# Altium schematic symbol library uControlador.SchLib: 27 symbols
Pins are listed as number, name and electrical type; pins without a type are passive.

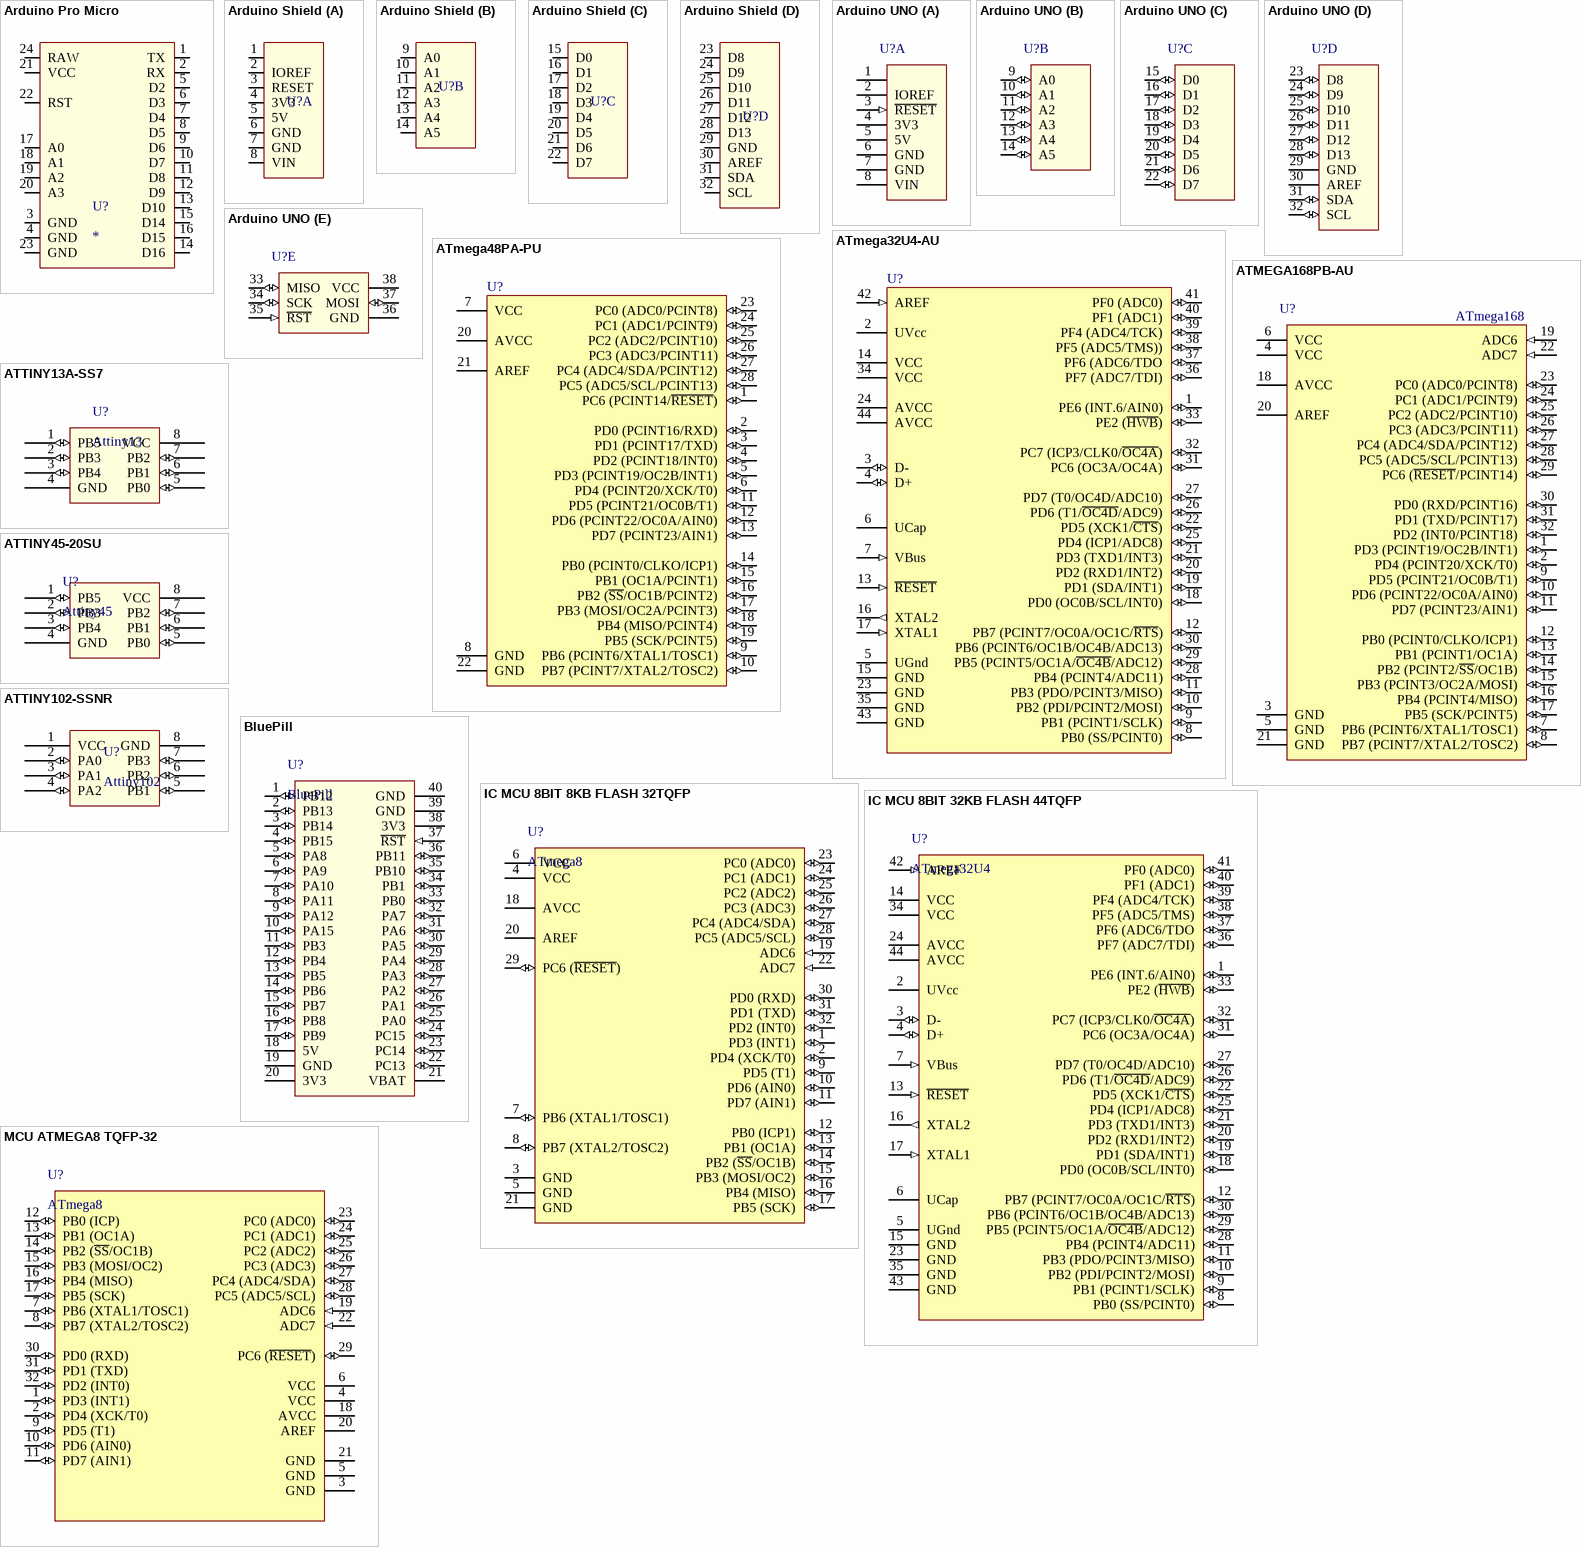
[diagram p0: symbols Arduino Pro Micro to MCU ATMEGA8 TQFP-32]

## Arduino Pro Micro
designator U?
Arduino Pro Micro
footprint Arduino Pro Micro
pins: 1 TX, 2 RX, 3 GND, 4 GND, 5 D2, 6 D3, 7 D4, 8 D5, 9 D6, 10 D7, 11 D8, 12 D9, 13 D10, 14 D16, 15 D14, 16 D15, 17 A0, 18 A1, 19 A2, 20 A3, 21 VCC, 22 RST, 23 GND, 24 RAW

## Arduino Shield
designator U?  (value not drawn)
footprint Arduino Shield
part A pins: 1, 2 IOREF, 3 RESET, 4 3V3, 5 5V, 6 GND, 7 GND, 8 VIN
part B pins: 9 A0, 10 A1, 11 A2, 12 A3, 13 A4, 14 A5
part C pins: 15 D0, 16 D1, 17 D2, 18 D3, 19 D4, 20 D5, 21 D6, 22 D7
part D pins: 23 D8, 24 D9, 25 D10, 26 D11, 27 D12, 28 D13, 29 GND, 30 AREF, 31 SDA, 32 SCL

## Arduino UNO
designator U?  (value not drawn)
footprint Arduino UNO
part A pins: 1, 2 IOREF, 3 ~{RESET} (in), 4 3V3 (power), 5 5V (power), 6 GND (power), 7 GND (power), 8 VIN (power)
part B pins: 9 A0 (io), 10 A1 (io), 11 A2 (io), 12 A3 (io), 13 A4 (io), 14 A5 (io)
part C pins: 15 D0 (io), 16 D1 (io), 17 D2 (io), 18 D3 (io), 19 D4 (io), 20 D5 (io), 21 D6 (io), 22 D7 (io)
part D pins: 23 D8 (io), 24 D9 (io), 25 D10 (io), 26 D11 (io), 27 D12 (io), 28 D13 (io), 29 GND (power), 30 AREF, 31 SDA (io), 32 SCL (io)
part E pins: 33 MISO (io), 34 SCK (io), 35 ~{RST} (in), 36 GND (power), 37 MOSI (io), 38 VCC (power)

## ATmega32U4-AU
designator U?
8-bit AVR Microcontroller, 2.7-5.5V, 32KB Flash, 2.5KB EEPROM, 1KB SRAM, USB Controller, 44-pin TQFP, Industrial Grade (-40°C to 85°C); Published: 1-Apr-2010; DatasheetVersion: revD, Jan-2009; PackageVersion: rev.G, Jul-2007; PackageReference: 44ML; Publisher: Altium Limited; PackageDescription: 44-Pin Plastic Thin Quad Flat Pack, 10 x 10 x 1.0 mm Body, 0.8 mm Pitch (TQFP); Supplier 1: Digi-Key; Supplier Part Number 1: ATMEGA32U4-AU-ND; Supplier 2: Farnell; Supplier Part Number 2: 1748525; Supplier 3: Mouser; Supplier Part Number 3: 556-ATMEGA32U4-AU; ComponentLink1Description: Manufacturer Link; ComponentLink1URL: http://www.atmel.com/products/avr/default.asp?; ComponentLink2Description: ATmega16U4/32U4 Datasheet; ComponentLink2URL: http://www.atmel.com/dyn/resources/prod_documents/doc7766.pdf; ComponentLink3Description: ATmega16U4 ATmega32U4 Summary; ComponentLink3URL: http://www.atmel.com/dyn/resources/prod_documents/7766S.pdf; ComponentLink4Description: Atmel.com Home; ComponentLink4URL: http://www.atmel.com
footprint 44ML (Thin QFP, 44-Leads, Body 10x10mm, Pitch 0.8mm, IPC Low Density)
pins: 1 PE6 (INT.6/AIN0) (io), 2 UVcc (power), 3 D- (io), 4 D+ (io), 5 UGnd (power), 6 UCap, 7 VBus (in), 8 PB0 (SS/PCINT0) (io), 9 PB1 (PCINT1/SCLK) (io), 10 PB2 (PDI/PCINT2/MOSI) (io), 11 PB3 (PDO/PCINT3/MISO) (io), 12 PB7 (PCINT7/OC0A/OC1C/~{RTS}) (io), 13 ~{RESET} (in), 14 VCC (power), 15 GND (power), 16 XTAL2 (out), 17 XTAL1 (in), 18 PD0 (OC0B/SCL/INT0) (io), 19 PD1 (SDA/INT1) (io), 20 PD2 (RXD1/INT2) (io), 21 PD3 (TXD1/INT3) (io), 22 PD5 (XCK1/~{CTS}) (io), 23 GND (power), 24 AVCC (power), 25 PD4 (ICP1/ADC8) (io), 26 PD6 (T1/~{OC4D}/ADC9) (io), 27 PD7 (T0/OC4D/ADC10) (io), 28 PB4 (PCINT4/ADC11) (io), 29 PB5 (PCINT5/OC1A/~{OC4B}/ADC12) (io), 30 PB6 (PCINT6/OC1B/OC4B/ADC13) (io), 31 PC6 (OC3A/OC4A) (io), 32 PC7 (ICP3/CLK0/~{OC4A}) (io), 33 PE2 (~{HWB}) (io), 34 VCC (power), 35 GND (power), 36 PF7 (ADC7/TDI) (io), 37 PF6 (ADC6/TDO (io), 38 PF5 (ADC5/TMS)) (io), 39 PF4 (ADC4/TCK) (io), 40 PF1 (ADC1) (io), 41 PF0 (ADC0) (io), 42 AREF (in), 43 GND (power), 44 AVCC (power)

## ATmega48PA-PU
designator U?
8-bit AVR Microcontroller, 4KB Flash, 256 Bytes EEPROM, 512 Bytes SRAM, 28-pin PDIP, Industrial Grade (-40°C to 85°C); Published: 1-Apr-2010; DatasheetVersion: revA, Jan-2010; PackageVersion: revB, Sep-2001; PackageReference: 28P3; Publisher: Altium Limited; PackageDescription: 28-lead (0.300"/7.62mm Wide) Plastic Dual Inline Package (PDIP); Supplier 1: Digi-Key; Supplier Part Number 1: ATMEGA48PA-PU-ND; Supplier 2: Farnell; Supplier Part Number 2: 1715489; Supplier 3: Mouser; Supplier Part Number 3: 556-ATMEGA48PA-PU; ComponentLink1Description: Manufacturer Link; ComponentLink1URL: http://www.atmel.com/products/avr/default.asp?; ComponentLink2Description: ATmega48A/48PA/88A/88PA/168A/168PA/328/328P Datasheet; ComponentLink2URL: http://www.atmel.com/dyn/resources/prod_documents/8271.pdf; ComponentLink3Description: ATmega48A/48PA/88A/88PA/168A/168PA/328/328P Summary; ComponentLink3URL: http://www.atmel.com/dyn/resources/prod_documents/8271S.pdf; ComponentLink4Description: Atmel.com Home; ComponentLink4URL: http://www.atmel.com
footprint DIP28
pins: 1 PC6 (PCINT14/~{RESET}) (io), 2 PD0 (PCINT16/RXD) (io), 3 PD1 (PCINT17/TXD) (io), 4 PD2 (PCINT18/INT0) (io), 5 PD3 (PCINT19/OC2B/INT1) (io), 6 PD4 (PCINT20/XCK/T0) (io), 7 VCC (power), 8 GND (power), 9 PB6 (PCINT6/XTAL1/TOSC1) (io), 10 PB7 (PCINT7/XTAL2/TOSC2) (io), 11 PD5 (PCINT21/OC0B/T1) (io), 12 PD6 (PCINT22/OC0A/AIN0) (io), 13 PD7 (PCINT23/AIN1) (io), 14 PB0 (PCINT0/CLKO/ICP1) (io), 15 PB1 (OC1A/PCINT1) (io), 16 PB2 (~{SS}/OC1B/PCINT2) (io), 17 PB3 (MOSI/OC2A/PCINT3) (io), 18 PB4 (MISO/PCINT4) (io), 19 PB5 (SCK/PCINT5) (io), 20 AVCC (power), 21 AREF (power), 22 GND (power), 23 PC0 (ADC0/PCINT8) (io), 24 PC1 (ADC1/PCINT9) (io), 25 PC2 (ADC2/PCINT10) (io), 26 PC3 (ADC3/PCINT11) (io), 27 PC4 (ADC4/SDA/PCINT12) (io), 28 PC5 (ADC5/SCL/PCINT13) (io)

## ATMEGA168PB-AU
designator U?  value ATmega168  (hidden comment: ATMEGA168PB-AU)
8-bit Microcontrollers - MCU 16KB 512B 1KB 20 MHZ TQFP GRN; Manufacturer: Atmel; Product Status: New at Mouser; Supplier 1: Mouser; Manufacturer Part Number: ATMEGA168PB-AU; RoHS: RoHS Compliant; Category: 8-bit Microcontrollers - MCU; Stock 1: 0; Pricing 1: 1=2.61, 10=2.41, 25=2.17, 50=1.84, 100=1.72, 250=1.66, 500=1.62, 1000=1.42, 2500=1.36 (AUD); Brand: Atmel; RoHS - Mouser: Y; Minimum Order Quantity: 1; Reeling: False; ComponentLink1URL: http://www.mouser.com/ds/2/36/Atmel-42176-ATmega48PB-88PB-168PB_Datasheet-519674.pdf; ComponentLink1Description: http://www.mouser.com/ds/2/36/Atmel-42176-ATmega48PB-88PB-168PB_Datasheet-519674.pdf; Supplier Part Number 1: 556-ATMEGA168PB-AU
footprint TQFP32 (32-Pin Thin Quad Flat Pack 0.8 mm Pitch, IPC Medium Density)
pins: 1 PD3 (PCINT19/OC2B/INT1) (io), 2 PD4 (PCINT20/XCK/T0) (io), 3 GND (power), 4 VCC (power), 5 GND (power), 6 VCC (power), 7 PB6 (PCINT6/XTAL1/TOSC1) (io), 8 PB7 (PCINT7/XTAL2/TOSC2) (io), 9 PD5 (PCINT21/OC0B/T1) (io), 10 PD6 (PCINT22/OC0A/AIN0) (io), 11 PD7 (PCINT23/AIN1) (io), 12 PB0 (PCINT0/CLKO/ICP1) (io), 13 PB1 (PCINT1/OC1A) (io), 14 PB2 (PCINT2/~{SS}/OC1B) (io), 15 PB3 (PCINT3/OC2A/MOSI) (io), 16 PB4 (PCINT4/MISO) (io), 17 PB5 (SCK/PCINT5) (io), 18 AVCC (power), 19 ADC6 (in), 20 AREF, 21 GND (power), 22 ADC7 (in), 23 PC0 (ADC0/PCINT8) (io), 24 PC1 (ADC1/PCINT9) (io), 25 PC2 (ADC2/PCINT10) (io), 26 PC3 (ADC3/PCINT11) (io), 27 PC4 (ADC4/SDA/PCINT12) (io), 28 PC5 (ADC5/SCL/PCINT13) (io), 29 PC6 (~{RESET}/PCINT14) (io), 30 PD0 (RXD/PCINT16) (io), 31 PD1 (TXD/PCINT17) (io), 32 PD2 (INT0/PCINT18) (io)

## ATTINY13A-SS7
designator U?, comment Attiny13
IC MCU 8BIT 1KB FLASH 8SOIC; Manufacturer: Atmel; Manufacturer Part Number: ATTINY13A-SS7; Core Processor: AVR; Core Size: 8-Bit; Speed: 20MHz; Peripherals: Brown-out Detect/Reset, POR, PWM, WDT; Number of I/O: 6; Program Memory Size: 1KB (512 x 16); EEPROM Size: 64 x 8; Voltage - Supply (Vcc/Vdd): 1.8 V ~ 5.5 V; Data Converters: A/D 4x10b; Oscillator Type: Internal; Supplier 1: Digi-Key; RoHS: RoHS Compliant; Category: Integrated Circuits (ICs); Stock 1: 456; Pricing 1: 1=1.17, 10=1.032, 25=0.9324, 100=0.8159, 250=0.71596, 500=0.6327, 1000=0.4995 (USD); Packaging: Tube; Part Status: Active; Connectivity: -; Program Memory Type: FLASH; RAM Size: 64 x 8; Operating Temperature: -40°C ~ 105°C (TA); Package / Case: 8-SOIC (0.154", 3.90mm Width); Supplier Device Package: 8-SOIC; ComponentLink1URL: http://www.atmel.com/Images/8126S.pdf; ComponentLink1Description: http://www.atmel.com/Images/8126S.pdf; Supplier Part Number 1: ATTINY13A-SS7-ND
footprint SO-8 (8-Pin Plastic Narrow Body Small Outline Integrated Circuit 1.27 mm Pitch, IPC Medium Density)
pins: 1 PB5 (io) "PCINT5/RESET/ADC0/dW", 2 PB3 (io) "PCINT3/CLKI/ADC3", 3 PB4 (io) "PCINT4/ADC2", 4 GND, 5 PB0 (io) "MOSI/AIN0/OC0A/PCINT0", 6 PB1 (io) "MISO/AIN1/OC0B/INT0/PCINT1", 7 PB2 (io) "SCK/ADC1/T0/PCINT2", 8 VCC (power)

## ATTINY45-20SU
designator U?, comment Attiny45
IC MCU 8BIT 4KB FLASH 8SOIC; Manufacturer: Atmel; Manufacturer Part Number: ATTINY45-20SU; Core Processor: AVR; Core Size: 8-Bit; Speed: 20MHz; Connectivity: USI; Peripherals: Brown-out Detect/Reset, POR, PWM, WDT; Number of I/O: 6; Program Memory Size: 4KB (2K x 16); EEPROM Size: 256 x 8; Voltage - Supply (Vcc/Vdd): 2.7 V ~ 5.5 V; Data Converters: A/D 4x10b; Oscillator Type: Internal; Supplier 1: Digi-Key; RoHS: RoHS Compliant; Category: Integrated Circuits (ICs); Stock 1: 22810; Pricing 1: 1=2.03, 10=1.832, 25=1.6356, 100=1.4722, 250=1.3086, 500=1.14502, 1000=0.94874 (USD); Packaging: Tube; Part Status: Active; Program Memory Type: FLASH; RAM Size: 256 x 8; Operating Temperature: -40°C ~ 85°C (TA); Package / Case: 8-SOIC (0.209", 5.30mm Width); Supplier Device Package: 8-SOIC; ComponentLink1URL: http://www.atmel.com/Images/Atmel-2586-AVR-8-bit-Microcontroller-ATtiny25-ATtiny45-ATtiny85_Datasheet-Summary.pdf; ComponentLink1Description: http://www.atmel.com/Images/Atmel-2586-AVR-8-bit-Microcontroller-ATtiny25-ATtiny45-ATtiny85_Datasheet-Summary.pdf; Supplier Part Number 1: ATTINY45-20SU-ND
footprint SO-8 (8-Pin Plastic Narrow Body Small Outline Integrated Circuit 1.27 mm Pitch, IPC Medium Density)
pins: 1 PB5 (io) "PCINT5/RESET/ADC0/dW", 2 PB3 (io) "PCINT3/XTAL1/CLKI/OC1B/ADC3", 3 PB4 (io) "PCINT4/XTAL2/CLKO/OC1B/ADC2", 4 GND, 5 PB0 (io) "MOSI/DI/SDA/AIN0/OC0A/OC1A/AREF/PCINT0", 6 PB1 (io) "MISO/DO/AIN1/OC0B/OC1A/PCINT1", 7 PB2 (io) "SCK/USCK/SCL/ADC1/T0/INT0/PCINT2", 8 VCC (power)

## ATTINY102-SSNR
designator U?, comment Attiny102
AVR, 1KB SELF-PROGRAMMABLE FLASH; Manufacturer: Atmel; Manufacturer Part Number: ATTINY102-SSNR; Core Size: 8-Bit; Speed: 12MHz; Connectivity: UART/USART; Peripherals: POR, PWM, WDT; Number of I/O: 6; Program Memory Size: 1KB (1K x 8); RAM Size: 32 x 8; Voltage - Supply (Vcc/Vdd): 1.8 V ~ 5.5 V; Data Converters: A/D 5x10b; Oscillator Type: Internal; Supplier 1: Digi-Key; RoHS: RoHS Compliant; Category: Integrated Circuits (ICs); Stock 1: 0; Pricing 1: 1=1.31, 10=1.158, 25=1.046, 100=0.9153, 250=0.8032, 500=0.7098, 1000=0.56037 (USD); Packaging: Cut Tape (CT); Part Status: Active; Core Processor: AVR; Program Memory Type: FLASH; EEPROM Size: -; Operating Temperature: -40°C ~ 105°C (TA); Package / Case: 8-SOIC (0.154", 3.90mm Width); Supplier Device Package: 8-SOIC; ComponentLink1URL: http://www.atmel.com/Images/Atmel-42505-8-bit-AVR-Microcontroller-ATtiny102-ATtiny104_Summary.pdf; ComponentLink1Description: http://www.atmel.com/Images/Atmel-42505-8-bit-AVR-Microcontroller-ATtiny102-ATtiny104_Summary.pdf; Supplier Part Number 1: ATTINY102-SSNRCT-ND
footprint SO-8 (8-Pin Plastic Narrow Body Small Outline Integrated Circuit 1.27 mm Pitch, IPC Medium Density)
pins: 1 VCC (power), 2 PA0 (io) "PCINT0/T0/CLKI/AIN0/ADC0/TPICLK", 3 PA1 (io) "PCINT1/OC0B/AIN1/ADC1/TPIDATA", 4 PA2 (io) "PCINT2/RESET", 5 PB1 (io) "ADC5/CLKO/INT0/OC0A/PCINT9", 6 PB2 (io) "ADC6/ICP0/TxD0/PCINT10", 7 PB3 (io) "ADC7/T0/RXd0/ACO/PCINT11", 8 GND (power)

## BluePill
designator U?
BluePill - STMDuino (STM32F103)
footprint BluePill
pins: 1 PB12 (io), 2 PB13 (io), 3 PB14 (io), 4 PB15 (io), 5 PA8 (io), 6 PA9 (io), 7 PA10 (io), 8 PA11 (io), 9 PA12 (io), 10 PA15 (io), 11 PB3 (io), 12 PB4 (io), 13 PB5 (io), 14 PB6 (io), 15 PB7 (io), 16 PB8 (io), 17 PB9 (io), 18 5V (power), 19 GND (power), 20 3V3 (power), 21 VBAT (power), 22 PC13 (io), 23 PC14 (io), 24 PC15 (io), 25 PA0 (io), 26 PA1 (io), 27 PA2 (io), 28 PA3 (io), 29 PA4 (io), 30 PA5 (io), 31 PA6 (io), 32 PA7 (io), 33 PB0 (io), 34 PB1 (io), 35 PB10 (io), 36 PB11 (io), 37 ~{RST} (in), 38 3V3 (power), 39 GND (power), 40 GND (power)

## IC MCU 8BIT 8KB FLASH 32TQFP
designator U?, comment ATmega8
IC MCU 8BIT 8KB FLASH 32TQFP; Manufacturer: Atmel; Manufacturer Part Number: ATMEGA8-16AU; Core Processor: AVR; Core Size: 8-Bit; Speed: 16MHz; Connectivity: I²C, SPI, UART/USART; Peripherals: Brown-out Detect/Reset, POR, PWM, WDT; Number of I/O: 23; Program Memory Size: 8KB (4K x 16); EEPROM Size: 512 x 8; RAM Size: 1K x 8; Voltage - Supply (Vcc/Vdd): 4.5 V ~ 5.5 V; Data Converters: A/D 8x10b; Oscillator Type: Internal; Supplier 1: Digi-Key; RoHS: RoHS Compliant; Category: Integrated Circuits (ICs); Stock 1: 2858; Pricing 1: 1=4.16, 10=3.713, 25=3.3412, 100=3.0443, 250=2.74724, 500=2.4651, 1000=2.079 (USD); Packaging: Tray; Part Status: Active; Program Memory Type: FLASH; Operating Temperature: -40°C ~ 85°C (TA); Package / Case: 32-TQFP; Supplier Device Package: 32-TQFP (7x7); ComponentLink1URL: http://www.atmel.com/Images/Atmel-2486-8-bit-AVR-microcontroller-ATmega8_L_datasheet.pdf; ComponentLink1Description: http://www.atmel.com/Images/Atmel-2486-8-bit-AVR-microcontroller-ATmega8_L_datasheet.pdf; Supplier Part Number 1: ATMEGA8-16AU-ND
footprint TQFP 32 N (TQFP, 32-Leads, Body 7,00x7,00mm, Pitch 0,80mm, IPC Medium Density)
pins: 1 PD3 (INT1) (io), 2 PD4 (XCK/T0) (io), 3 GND (power), 4 VCC (power), 5 GND (power), 6 VCC (power), 7 PB6 (XTAL1/TOSC1) (io), 8 PB7 (XTAL2/TOSC2) (io), 9 PD5 (T1) (io), 10 PD6 (AIN0) (io), 11 PD7 (AIN1) (io), 12 PB0 (ICP1) (io), 13 PB1 (OC1A) (io), 14 PB2 (~{SS}/OC1B) (io), 15 PB3 (MOSI/OC2) (io), 16 PB4 (MISO) (io), 17 PB5 (SCK) (io), 18 AVCC (power), 19 ADC6 (in), 20 AREF (power), 21 GND (power), 22 ADC7 (in), 23 PC0 (ADC0) (io), 24 PC1 (ADC1) (io), 25 PC2 (ADC2) (io), 26 PC3 (ADC3) (io), 27 PC4 (ADC4/SDA) (io), 28 PC5 (ADC5/SCL) (io), 29 PC6 (~{RESET}) (io), 30 PD0 (RXD) (io), 31 PD1 (TXD) (io), 32 PD2 (INT0) (io)

## IC MCU 8BIT 32KB FLASH 44TQFP
designator U?, comment ATmega32U4
IC MCU 8BIT 32KB FLASH 44TQFP; Manufacturer: Atmel; Manufacturer Part Number: ATMEGA32U4-AU; Core Processor: AVR; Core Size: 8-Bit; Speed: 16MHz; Connectivity: I²C, SPI, UART/USART, USB; Peripherals: Brown-out Detect/Reset, POR, PWM, WDT; Number of I/O: 26; Program Memory Size: 32KB (16K x 16); EEPROM Size: 1K x 8; RAM Size: 2.5K x 8; Voltage - Supply (Vcc/Vdd): 2.7 V ~ 5.5 V; Data Converters: A/D 12x10b; Oscillator Type: Internal; Supplier 1: Digi-Key; RoHS: RoHS Compliant; Category: Integrated Circuits (ICs); Stock 1: 6343; Pricing 1: 1=6.35, 10=5.715, 25=5.2064, 100=4.6986, 250=4.31768, 500=3.9367, 1000=3.5275 (USD); Packaging: Tray; Part Status: Active; Program Memory Type: FLASH; Operating Temperature: -40°C ~ 85°C (TA); Package / Case: 44-TQFP; Supplier Device Package: 44-TQFP (10x10); ComponentLink1URL: http://www.atmel.com/Images/Atmel-7766-8-bit-AVR-ATmega16U4-32U4_Summary.pdf; ComponentLink1Description: http://www.atmel.com/Images/Atmel-7766-8-bit-AVR-ATmega16U4-32U4_Summary.pdf; Supplier Part Number 1: ATMEGA32U4-AU-ND
footprint TQFP-44 N (Thin QFP, 44-Leads, Body 10x10mm, Pitch 0.8mm, IPC Medium Density)
pins: 1 PE6 (INT.6/AIN0) (io), 2 UVcc (power), 3 D- (io), 4 D+ (io), 5 UGnd (power), 6 UCap, 7 VBus (in), 8 PB0 (SS/PCINT0) (io), 9 PB1 (PCINT1/SCLK) (io), 10 PB2 (PDI/PCINT2/MOSI) (io), 11 PB3 (PDO/PCINT3/MISO) (io), 12 PB7 (PCINT7/OC0A/OC1C/~{RTS}) (io), 13 ~{RESET} (in), 14 VCC (power), 15 GND (power), 16 XTAL2 (out), 17 XTAL1 (in), 18 PD0 (OC0B/SCL/INT0) (io), 19 PD1 (SDA/INT1) (io), 20 PD2 (RXD1/INT2) (io), 21 PD3 (TXD1/INT3) (io), 22 PD5 (XCK1/~{CTS}) (io), 23 GND (power), 24 AVCC (power), 25 PD4 (ICP1/ADC8) (io), 26 PD6 (T1/~{OC4D}/ADC9) (io), 27 PD7 (T0/OC4D/ADC10) (io), 28 PB4 (PCINT4/ADC11) (io), 29 PB5 (PCINT5/OC1A/~{OC4B}/ADC12) (io), 30 PB6 (PCINT6/OC1B/OC4B/ADC13) (io), 31 PC6 (OC3A/OC4A) (io), 32 PC7 (ICP3/CLK0/~{OC4A}) (io), 33 PE2 (~{HWB}) (io), 34 VCC (power), 35 GND (power), 36 PF7 (ADC7/TDI) (io), 37 PF6 (ADC6/TDO (io), 38 PF5 (ADC5/TMS) (io), 39 PF4 (ADC4/TCK) (io), 40 PF1 (ADC1) (io), 41 PF0 (ADC0) (io), 42 AREF (in), 43 GND (power), 44 AVCC (power)

## MCU ATMEGA8 TQFP-32
designator U?, comment ATmega8
8-bit Microcontrollers - MCU 8kB Flash 0.5kB EEPROM 23 I/O Pins; Manufacturer: Atmel; Manufacturer Part Number: ATmega8-16AU; Data RAM Size: 1 kB; Data RAM Type: SRAM; Data ROM Size: 512 B; Interface Type: SPI, TWI, USART; Number of I/Os: 23 I/O; Core: AVR; Data Bus Width: 8 bit; Maximum Clock Frequency: 16 MHz; Number of Timers/Counters: 3 Timer; Operating Supply Voltage: 4.5 V to 5.5 V; Processor Series: megaAVR; Supply Voltage - Max: 5.5 V; Supply Voltage - Min: 4.5 V; Supplier 1: Mouser; RoHS: RoHS Compliant; Category: 8-bit Microcontrollers - MCU; Stock 1: 1419; Pricing 1: 1=4.15, 10=3.71, 25=3.34, 50=3.13, 100=3.04, 250=2.74, 500=2.45, 1000=2.07, 2500=2.05 (AUD); Package / Case: TQFP-32; Packaging: Tray; Product: MCU; Program Memory Type: Flash; Series: ATMEGA 8; Brand: Atmel; Data ROM Type: EEPROM; Mounting Style: SMD/SMT; Program Memory Size: 8 kB; Maximum Operating Temperature: + 85 C; Minimum Operating Temperature: - 40 C; Product Category: Microcontrollers - RISC; Standard Pack Qty: 250; Tradename: ATMEGA; RoHS - Mouser: Y; Minimum Order Quantity: 1; Reeling: False; ComponentLink1URL: http://www.mouser.com/ds/2/36/Atmel-2486-8-bit-AVR-microcontroller-ATmega8_L_dat-356589.pdf; ComponentLink1Description: http://www.mouser.com/ds/2/36/Atmel-2486-8-bit-AVR-microcontroller-ATmega8_L_dat-356589.pdf; Supplier Part Number 1: 556-ATMEGA8-16AU
footprint TQFP32 0.8MM
pins: 1 PD3 (INT1) (io), 2 PD4 (XCK/T0) (io), 3 GND (power), 4 VCC (power), 5 GND (power), 6 VCC (power), 7 PB6 (XTAL1/TOSC1) (io), 8 PB7 (XTAL2/TOSC2) (io), 9 PD5 (T1) (io), 10 PD6 (AIN0) (io), 11 PD7 (AIN1) (io), 12 PB0 (ICP) (io), 13 PB1 (OC1A) (io), 14 PB2 (~{SS}/OC1B) (io), 15 PB3 (MOSI/OC2) (io), 16 PB4 (MISO) (io), 17 PB5 (SCK) (io), 18 AVCC (power), 19 ADC6 (in), 20 AREF, 21 GND (power), 22 ADC7 (in), 23 PC0 (ADC0) (io), 24 PC1 (ADC1) (io), 25 PC2 (ADC2) (io), 26 PC3 (ADC3) (io), 27 PC4 (ADC4/SDA) (io), 28 PC5 (ADC5/SCL) (io), 29 PC6 (~{RESET}) (io), 30 PD0 (RXD) (io), 31 PD1 (TXD) (io), 32 PD2 (INT0) (io)

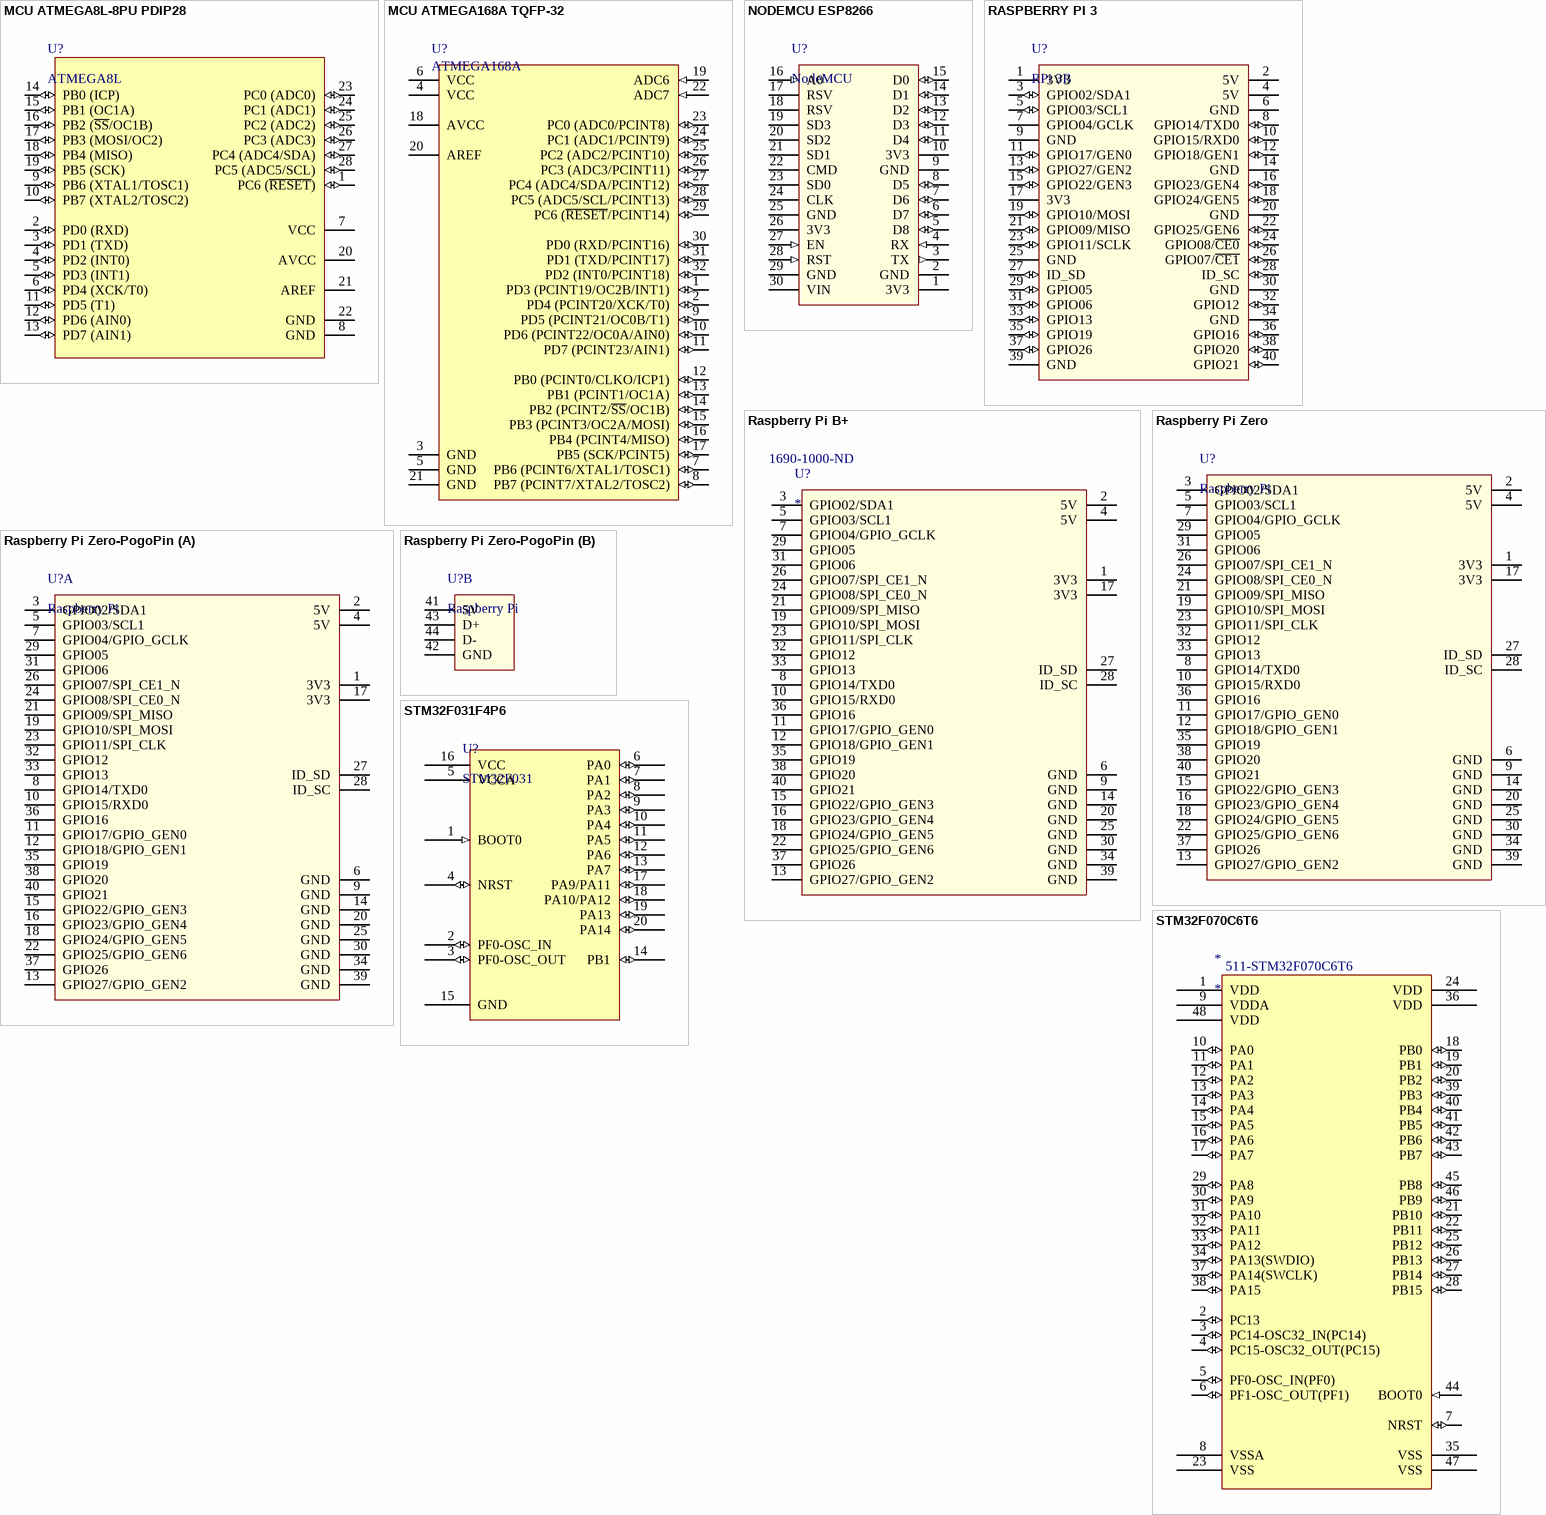
[diagram p1: symbols MCU ATMEGA8L-8PU PDIP28 to STM32F070C6T6]

## MCU ATMEGA8L-8PU PDIP28
designator U?, comment ATMEGA8L
8-bit Microcontrollers - MCU 8kB Flash 0.5kB EEPROM 23 I/O Pins; Manufacturer: Atmel; Manufacturer Part Number: ATmega8L-8PU; Data RAM Size: 1 kB; Data RAM Type: SRAM; Data ROM Size: 512 B; Interface Type: SPI, TWI, USART; Number of I/Os: 23 I/O; Core: AVR; Data Bus Width: 8 bit; Maximum Clock Frequency: 8 MHz; Number of Timers/Counters: 3 Timer; Operating Supply Voltage: 2.7 V to 5.5 V; Processor Series: megaAVR; Supply Voltage - Max: 5.5 V; Supply Voltage - Min: 2.7 V; Supplier 1: Mult Comercial; RoHS: RoHS Compliant; Category: 8-bit Microcontrollers - MCU; Pricing 1: 1=8.70 (BRL); Package / Case: DIP-28; Packaging: Tray; Product: MCU; Program Memory Type: Flash; Series: ATMEGA 8; Brand: Atmel; Data ROM Type: EEPROM; Mounting Style: SMD/SMT; Program Memory Size: 8 kB; Maximum Operating Temperature: + 85 C; Minimum Operating Temperature: - 40 C; Product Category: Microcontrollers - RISC; Standard Pack Qty: 1; Tradename: ATMEGA; Minimum Order Quantity: 1; Reeling: False; ComponentLink1URL: http://loja.multcomercial.com.br/microcontrolador-atmega88pa-pu-dip28-cod-loja-748-atmel-2.html; ComponentLink1Description: http://loja.multcomercial.com.br/microcontrolador-atmega88pa-pu-dip28-cod-loja-748-atmel-2.html; Supplier Part Number 1: Microcontrolador ATMEGA8L-8PU DIP28 - Cód. Loja 472- Atmel; Supplier Part Number 2: Soquete estampado slim MAC28 28 pinos - Cód. Loja 2260 E 2261; ComponentLink2Description: http://loja.multcomercial.com.br/soquete-estampado-slim-mac28-28-pinos-cod-loja-2260-e-2261.html; ComponentLink2URL: http://loja.multcomercial.com.br/soquete-estampado-slim-mac28-28-pinos-cod-loja-2260-e-2261.html
footprint DIP28
pins: 1 PC6 (~{RESET}) (io), 2 PD0 (RXD) (io), 3 PD1 (TXD) (io), 4 PD2 (INT0) (io), 5 PD3 (INT1) (io), 6 PD4 (XCK/T0) (io), 7 VCC (power), 8 GND (power), 9 PB6 (XTAL1/TOSC1) (io), 10 PB7 (XTAL2/TOSC2) (io), 11 PD5 (T1) (io), 12 PD6 (AIN0) (io), 13 PD7 (AIN1) (io), 14 PB0 (ICP) (io), 15 PB1 (OC1A) (io), 16 PB2 (~{SS}/OC1B) (io), 17 PB3 (MOSI/OC2) (io), 18 PB4 (MISO) (io), 19 PB5 (SCK) (io), 20 AVCC (power), 21 AREF, 22 GND (power), 23 PC0 (ADC0) (io), 24 PC1 (ADC1) (io), 25 PC2 (ADC2) (io), 26 PC3 (ADC3) (io), 27 PC4 (ADC4/SDA) (io), 28 PC5 (ADC5/SCL) (io)

## MCU ATMEGA168A TQFP-32
designator U?, comment ATMEGA168A
8-bit Microcontrollers - MCU AVR 16KB FL 512B EE 1KB SRAM-20MHz; Manufacturer: Atmel; Manufacturer Part Number: ATMEGA168A-AUR; Program Memory Type: Flash; Data RAM Type: SRAM; Data ROM Type: EEPROM; Interface Type: 2-Wire Serial, SPI, USART; Number of I/Os: 23 I/O; ADC Resolution: 10 bit; Data Bus Width: 8 bit; Maximum Clock Frequency: 20 MHz; Number of ADC Channels: 8; Number of Timers/Counters: 3 Timer; Operating Supply Voltage: 1.8 V to 5.5 V; Processor Series: megaAVR; Supply Voltage - Max: 5.5 V; Supply Voltage - Min: 1.8 V; Supplier 1: Mouser; RoHS: RoHS Compliant; Category: 8-bit Microcontrollers - MCU; Stock 1: 2243; Pricing 1: 1=2.84, 10=2.54, 25=2.28, 50=2.14, 100=2.08, 250=1.88, 500=1.68, 1000=1.42, 2000=1.40 (USD); Package / Case: TQFP-32; Packaging: Reel; Product: MCU; Series: ATMEGA 168A; Brand: Atmel; Data RAM Size: 1 kB; Data ROM Size: 512 B; Mounting Style: SMD/SMT; Program Memory Size: 16 kB; Core: AVR; Maximum Operating Temperature: + 85 C; Minimum Operating Temperature: - 40 C; Standard Pack Qty: 2000; Tradename: ATMEGA; RoHS - Mouser: Y; Minimum Order Quantity: 1; Reeling: True; ComponentLink1URL: http://www.mouser.com/ds/2/36/atmel-8271-8-bit-avr-microcontroller-atmega48a-48p-365589.pdf; ComponentLink1Description: http://www.mouser.com/ds/2/36/atmel-8271-8-bit-avr-microcontroller-atmega48a-48p-365589.pdf; Supplier Part Number 1: 556-ATMEGA168A-AUR
footprint TQFP32 0.8MM
pins: 1 PD3 (PCINT19/OC2B/INT1) (io), 2 PD4 (PCINT20/XCK/T0) (io), 3 GND (power), 4 VCC (power), 5 GND (power), 6 VCC (power), 7 PB6 (PCINT6/XTAL1/TOSC1) (io), 8 PB7 (PCINT7/XTAL2/TOSC2) (io), 9 PD5 (PCINT21/OC0B/T1) (io), 10 PD6 (PCINT22/OC0A/AIN0) (io), 11 PD7 (PCINT23/AIN1) (io), 12 PB0 (PCINT0/CLKO/ICP1) (io), 13 PB1 (PCINT1/OC1A) (io), 14 PB2 (PCINT2/~{SS}/OC1B) (io), 15 PB3 (PCINT3/OC2A/MOSI) (io), 16 PB4 (PCINT4/MISO) (io), 17 PB5 (SCK/PCINT5) (io), 18 AVCC (power), 19 ADC6 (in), 20 AREF, 21 GND (power), 22 ADC7 (in), 23 PC0 (ADC0/PCINT8) (io), 24 PC1 (ADC1/PCINT9) (io), 25 PC2 (ADC2/PCINT10) (io), 26 PC3 (ADC3/PCINT11) (io), 27 PC4 (ADC4/SDA/PCINT12) (io), 28 PC5 (ADC5/SCL/PCINT13) (io), 29 PC6 (~{RESET}/PCINT14) (io), 30 PD0 (RXD/PCINT16) (io), 31 PD1 (TXD/PCINT17) (io), 32 PD2 (INT0/PCINT18) (io)

## NODEMCU ESP8266
designator U?, comment NodeMCU
NODEMCU V2 LUA BASED ESP8266 DEV; Manufacturer: Seeed Studio; Manufacturer Part Number: 113990105; Supplier 1: Digi-Key; Stock 1: 0; Supplier Part Number 1: 113990105-ND
footprint NODEMCU
pins: 1 3V3 (power), 2 GND (power), 3 TX (out), 4 RX (in), 5 D8 (io), 6 D7 (io), 7 D6 (io), 8 D5 (io), 9 GND (power), 10 3V3 (power), 11 D4 (io), 12 D3 (io), 13 D2 (io), 14 D1 (io), 15 D0 (io), 16 A0 (in), 17 RSV, 18 RSV, 19 SD3, 20 SD2, 21 SD1, 22 CMD, 23 SD0, 24 CLK, 25 GND (power), 26 3V3 (power), 27 EN (in), 28 RST (in), 29 GND (power), 30 VIN (power)

## RASPBERRY PI 3
designator U?, comment RPi 3B
SINGLE BOARD COMPUTER 1.2GHZ 1GB; Manufacturer: Raspberry Pi; Manufacturer Part Number: RASPBERRY PI 3; Core Processor: ARM® Cortex®-A53, VideoCore; Platform: Raspberry Pi 3 Model B; For Use With/Related Products: BCM2837; Contents: Board(s); Supplier 1: Digi-Key; RoHS: Not Applicable; Category: Development Boards, Kits, Programmers; Stock 1: 6928; Pricing 1: 1=40 (USD); Part Status: Active; Board Type: Single Board Computer; Type: MPU; Operating System: -; Mounting Type: Fixed; ComponentLink1URL: http://media.digikey.com/pdf/Data%20Sheets/Raspberry%20Pi%20PDFs/Raspberrypi_PI_3_Model_B_Web.pdf; ComponentLink1Description: http://media.digikey.com/pdf/Data%20Sheets/Raspberry%20Pi%20PDFs/Raspberrypi_PI_3_Model_B_Web.pdf; Supplier Part Number 1: 1690-1000-ND
footprint RPi 3B
pins: 1 3V3 (power), 2 5V (power), 3 GPIO02/SDA1 (io), 4 5V (power), 5 GPIO03/SCL1 (io), 6 GND (power), 7 GPIO04/GCLK (power), 8 GPIO14/TXD0 (io), 9 GND (power), 10 GPIO15/RXD0 (io), 11 GPIO17/GEN0 (io), 12 GPIO18/GEN1 (io), 13 GPIO27/GEN2 (io), 14 GND (power), 15 GPIO22/GEN3 (io), 16 GPIO23/GEN4 (io), 17 3V3 (power), 18 GPIO24/GEN5 (io), 19 GPIO10/MOSI (io), 20 GND (power), 21 GPIO09/MISO (io), 22 GPIO25/GEN6 (io), 23 GPIO11/SCLK (io), 24 GPIO08/~{CE0} (io), 25 GND (power), 26 GPIO07/~{CE1} (io), 27 ID_SD (io), 28 ID_SC (io), 29 GPIO05 (io), 30 GND (power), 31 GPIO06 (io), 32 GPIO12 (io), 33 GPIO13 (io), 34 GND (power), 35 GPIO19 (io), 36 GPIO16 (io), 37 GPIO26 (io), 38 GPIO20 (io), 39 GND (power), 40 GPIO21 (io)

## Raspberry Pi B+
designator U?  Supplier Part Number 1: 1690-1000-ND
SINGLE BOARD COMPUTER 1.33GHZ 2G; Manufacturer: Raspberry Pi; Manufacturer Part Number: RASPBERRY PI 3; Core Processor: ARM® Cortex®-A53, VideoCore; For Use With/Related Products: BCM2837; Contents: Board(s); Supplier 1: Digi-Key; RoHS: Not Applicable; Category: Programmers, Development Systems; Stock 1: 2410; Pricing 1: 1=47.5 (USD); Part Status: Active; Board Type: Single Board Computer; Type: MPU; Operating System: -; Platform: Raspberry Pi 3; Mounting Type: Fixed; ComponentLink1URL: http://media.digikey.com/pdf/Data%20Sheets/Raspberry%20Pi%20PDFs/Raspberrypi_PI_3_Model_B_Web.pdf; ComponentLink1Description: http://media.digikey.com/pdf/Data%20Sheets/Raspberry%20Pi%20PDFs/Raspberrypi_PI_3_Model_B_Web.pdf
footprint Raspberry Pi B+
pins: 1 3V3, 2 5V, 3 GPIO02/SDA1, 4 5V, 5 GPIO03/SCL1, 6 GND, 7 GPIO04/GPIO_GCLK, 8 GPIO14/TXD0, 9 GND, 10 GPIO15/RXD0, 11 GPIO17/GPIO_GEN0, 12 GPIO18/GPIO_GEN1, 13 GPIO27/GPIO_GEN2, 14 GND, 15 GPIO22/GPIO_GEN3, 16 GPIO23/GPIO_GEN4, 17 3V3, 18 GPIO24/GPIO_GEN5, 19 GPIO10/SPI_MOSI, 20 GND, 21 GPIO09/SPI_MISO, 22 GPIO25/GPIO_GEN6, 23 GPIO11/SPI_CLK, 24 GPIO08/SPI_CE0_N, 25 GND, 26 GPIO07/SPI_CE1_N, 27 ID_SD, 28 ID_SC, 29 GPIO05, 30 GND, 31 GPIO06, 32 GPIO12, 33 GPIO13, 34 GND, 35 GPIO19, 36 GPIO16, 37 GPIO26, 38 GPIO20, 39 GND, 40 GPIO21

## Raspberry Pi Zero
designator U?, comment Raspberry Pi
footprint Raspberry Pi Zero
pins: 1 3V3, 2 5V, 3 GPIO02/SDA1, 4 5V, 5 GPIO03/SCL1, 6 GND, 7 GPIO04/GPIO_GCLK, 8 GPIO14/TXD0, 9 GND, 10 GPIO15/RXD0, 11 GPIO17/GPIO_GEN0, 12 GPIO18/GPIO_GEN1, 13 GPIO27/GPIO_GEN2, 14 GND, 15 GPIO22/GPIO_GEN3, 16 GPIO23/GPIO_GEN4, 17 3V3, 18 GPIO24/GPIO_GEN5, 19 GPIO10/SPI_MOSI, 20 GND, 21 GPIO09/SPI_MISO, 22 GPIO25/GPIO_GEN6, 23 GPIO11/SPI_CLK, 24 GPIO08/SPI_CE0_N, 25 GND, 26 GPIO07/SPI_CE1_N, 27 ID_SD, 28 ID_SC, 29 GPIO05, 30 GND, 31 GPIO06, 32 GPIO12, 33 GPIO13, 34 GND, 35 GPIO19, 36 GPIO16, 37 GPIO26, 38 GPIO20, 39 GND, 40 GPIO21

## Raspberry Pi Zero-PogoPin
designator U?, comment Raspberry Pi
footprint Raspberry Pi Zero - PogoPin
part A pins: 1 3V3, 2 5V, 3 GPIO02/SDA1, 4 5V, 5 GPIO03/SCL1, 6 GND, 7 GPIO04/GPIO_GCLK, 8 GPIO14/TXD0, 9 GND, 10 GPIO15/RXD0, 11 GPIO17/GPIO_GEN0, 12 GPIO18/GPIO_GEN1, 13 GPIO27/GPIO_GEN2, 14 GND, 15 GPIO22/GPIO_GEN3, 16 GPIO23/GPIO_GEN4, 17 3V3, 18 GPIO24/GPIO_GEN5, 19 GPIO10/SPI_MOSI, 20 GND, 21 GPIO09/SPI_MISO, 22 GPIO25/GPIO_GEN6, 23 GPIO11/SPI_CLK, 24 GPIO08/SPI_CE0_N, 25 GND, 26 GPIO07/SPI_CE1_N, 27 ID_SD, 28 ID_SC, 29 GPIO05, 30 GND, 31 GPIO06, 32 GPIO12, 33 GPIO13, 34 GND, 35 GPIO19, 36 GPIO16, 37 GPIO26, 38 GPIO20, 39 GND, 40 GPIO21
part B pins: 41 5V, 42 GND, 43 D+, 44 D-

## STM32F031F4P6
designator U?, comment STM32F031
MCU 32-Bit STM32 ARM Cortex M0 RISC 16KB Flash 2.5V/3.3V 20-Pin TSSOP Tray; Manufacturer: STMicroelectronics; Manufacturer Part Number: STM32F031F4P6; RAM Size: 4KB; Interface: I2C,SPI,I2S,IrDA,UART,USART,LIN; Number of I/Os: 15; Number of Timers/Counters: 6; Frequency: 48MHz; Oscillator Type: Internal; Data Bus Width: 32b; Peripherals: POR,PWM,WDT,DMA; Max Power Dissipation: 182mW; Watchdog Timer: Yes; Number of ADC Channels: 12; Max Supply Voltage: 3.6V; Min Supply Voltage: 2V; Supplier 1: Digi-Key; Stock 1: 1470; Pricing 1: 1=1.68, 10=1.513, 100=1.2162, 500=0.9993, 1000=0.828 (USD); Mount: Surface Mount; Case/Package: TSSOP; Number of Pins: 20; Contact Plating: Nickel,Gold; Min Operating Temperature: -40°C; Max Operating Temperature: 85°C; Max Frequency: 48MHz; Memory Type: FLASH; Memory Size: 16KB; Core Architecture: ARM; Packaging: Rail/Tube; Package Quantity: 1480; Number of Programmable I/O: 15; Radiation Hardening: No; Lead Free: Lead Free; ComponentLink1URL: https://datasheet.ciiva.com/48492/dm00104043-48492520.pdf; ComponentLink1Description: https://datasheet.ciiva.com/48492/dm00104043-48492520.pdf; Supplier Part Number 1: 497-17338-ND
footprint TSSOP20 (TSOP, 20-Leads, Body 6,50x4,40mm, Pitch 0,65mm, IPC Medium Density)
footprint TSSOP20 (TSOP, 20-Leads, Body 6,50x4,40mm, Pitch 0,65mm, IPC Medium Density)
pins: 1 BOOT0 (in), 2 PF0-OSC_IN (io), 3 PF0-OSC_OUT (io), 4 NRST (io), 5 VCCA (power), 6 PA0 (io), 7 PA1 (io), 8 PA2 (io), 9 PA3 (io), 10 PA4 (io), 11 PA5 (io), 12 PA6 (io), 13 PA7 (io), 14 PB1 (io), 15 GND, 16 VCC (power), 17 PA9/PA11 (io), 18 PA10/PA12 (io), 19 PA13 (io), 20 PA14 (io)

## STM32F070C6T6
designator *  Supplier Part Number 1: 511-STM32F070C6T6
STMICROELECTRONICS         STM32F070C6T6             32 Bit Microcontroller, Value Line, ARM Cortex-M0, 48 MHz, 32 KB, 6 KB, 48 Pins, LQFP; CPU Speed: 48MHz; Program Memory Size: 32KB; RAM Memory Size: 6KB; No. of Pins: 48Pins; No. of I/O's: 37I/O's; Embedded Interface Type: I2C, SPI, USART, USB; Supply Voltage Min: 2.4V; Supply Voltage Max: 3.6V; Product Range: STM32 F0 ARM Cortex-M0 Microcontrollers; SVHC: No SVHC (17-Dec-2015); Supplier 1: Mouser; Manufacturer: STMicroelectronics; Manufacturer Part Number: STM32F070C6T6; Stock 1: 35; Pricing 1: 1=2.06, 10=1.75, 50=1.75, 100=1.4, 1000=1.02, 10000=0.911 (USD); Architecture: ARM Cortex-M0; MCU Case Style: LQFP; Packaging: Each; Automotive Qualification Standard: -; MSL: -; ComponentLink1URL: http://www.farnell.com/datasheets/1943789.pdf; ComponentLink1Description: http://www.farnell.com/datasheets/1943789.pdf
footprint LQFP48_N (Thin QFP, 48-Leads, Body 7x7mm, Pitch 0.5mm, IPC Medium Density)
pins: 1 VDD (power), 2 PC13 (io) "PC13/RTC_TAMP1,RTC_TS,RTC_OUT,WKUP2", 3 PC14-OSC32_IN(PC14) (io) "PC14-OSC32_IN(PC14)/OSC32_IN", 4 PC15-OSC32_OUT(PC15) (io) "PC15-OSC32_OUT(PC15)/OSC32_OUT", 5 PF0-OSC_IN(PF0) (io) "PF0-OSC_IN(PF0)/OSC_IN", 6 PF1-OSC_OUT(PF1) (io) "PF1-OSC_OUT(PF1)/OSC_OUT", 7 NRST (io) "Device reset input / internal reset output (active low)", 8 VSSA, 9 VDDA (power), 10 PA0 (io) "PA0/USART1_CTS/ADC_IN0,RTC_TAMP2,WKUP1", 11 PA1 (io) "PA1/USART1_RTS,EVENTOUT/ADC_IN1", 12 PA2 (io) "PA2/USART1_TX/ADC_IN2", 13 PA3 (io) "PA3/USART1_RX/ADC_IN3", 14 PA4 (io) "PA4/SPI1_NSS,USART1_CK,TIM14_CH1/ADC_IN4", 15 PA5 (io) "PA5/SPI1_SCK/ADC_IN5", 16 PA6 (io) "PA6/SPI1_MISO,TIM3_CH1,TIM1_BKIN,TIM16_CH1,EVENTOUT/ADC_IN6", 17 PA7 (io) "PA7/SPI1_MOSI,TIM3_CH2,TIM14_CH1,TIM1_CH1N,TIM17_CH1,EVENTOUT/ADC_IN7", 18 PB0 (io) "PB0/TIM3_CH3,TIM1_CH2N,EVENTOUT/ADC_IN8", 19 PB1 (io) "PB1/TIM3_CH4,TIM14_CH1,TIM1_CH3N/ADC_IN9", 20 PB2 (io), 21 PB10 (io) "PB10/I2C1_SCL", 22 PB11 (io) "PB11/I2C1_SDA,EVENTOUT", 23 VSS, 24 VDD (power), 25 PB12 (io) "PB12/SPI1_NSS,TIM1_BKIN,EVENTOUT", 26 PB13 (io) "PB13/SPI1_SCK,TIM1_CH1N", 27 PB14 (io) "PB14/SPI1_MISO,TIM1_CH2N", 28 PB15 (io) "PB15/SPI1_MOSI,TIM1_CH3N/RTC_REFIN", 29 PA8 (io) "PA8/USART1_CK,TIM1_CH1,EVENTOUT,MCO", 30 PA9 (io) "PA9/USART1_TX,TIM1_CH2,I2C1_SCL", 31 PA10 (io) "PA10/USART1_RX,TIM1_CH3,TIM17_BKIN,I2C1_SDA", 32 PA11 (io) "PA11/USART1_CTS,TIM1_CH4,EVENTOUT", 33 PA12 (io) "PA12/USART1_RTS,TIM1_ETR,EVENTOUT", 34 PA13(SWDIO) (io) "PA13(SWDIO)/IR_OUT,SWDIO", 35 VSS, 36 VDD (power), 37 PA14(SWCLK) (io) "PA14(SWCLK)/USART1_TX,SWCLK", 38 PA15 (io) "PA15/SPI1_NSS,USART1_RX,EVENTOUT", 39 PB3 (io) "PB3/SPI1_SCK,EVENTOUT", 40 PB4 (io) "PB4/SPI1_MISO,TIM3_CH1,EVENTOUT", 41 PB5 (io) "PB5/SPI1_MOSI,I2C1_SMBA,TIM16_BKIN,TIM3_CH2", 42 PB6 (io) "PB6/I2C1_SCL,USART1_TX,TIM16_CH1N", 43 PB7 (io) "PB7/I2C1_SDA,USART1_RX,TIM17_CH1N", 44 BOOT0 (in) "Boot memory selection", 45 PB8 (io) "PB8/I2C1_SCL,TIM16_CH1", 46 PB9 (io) "PB9/I2C1_SDA,IR_OUT,TIM17_CH1,EVENTOUT", 47 VSS, 48 VDD (power)

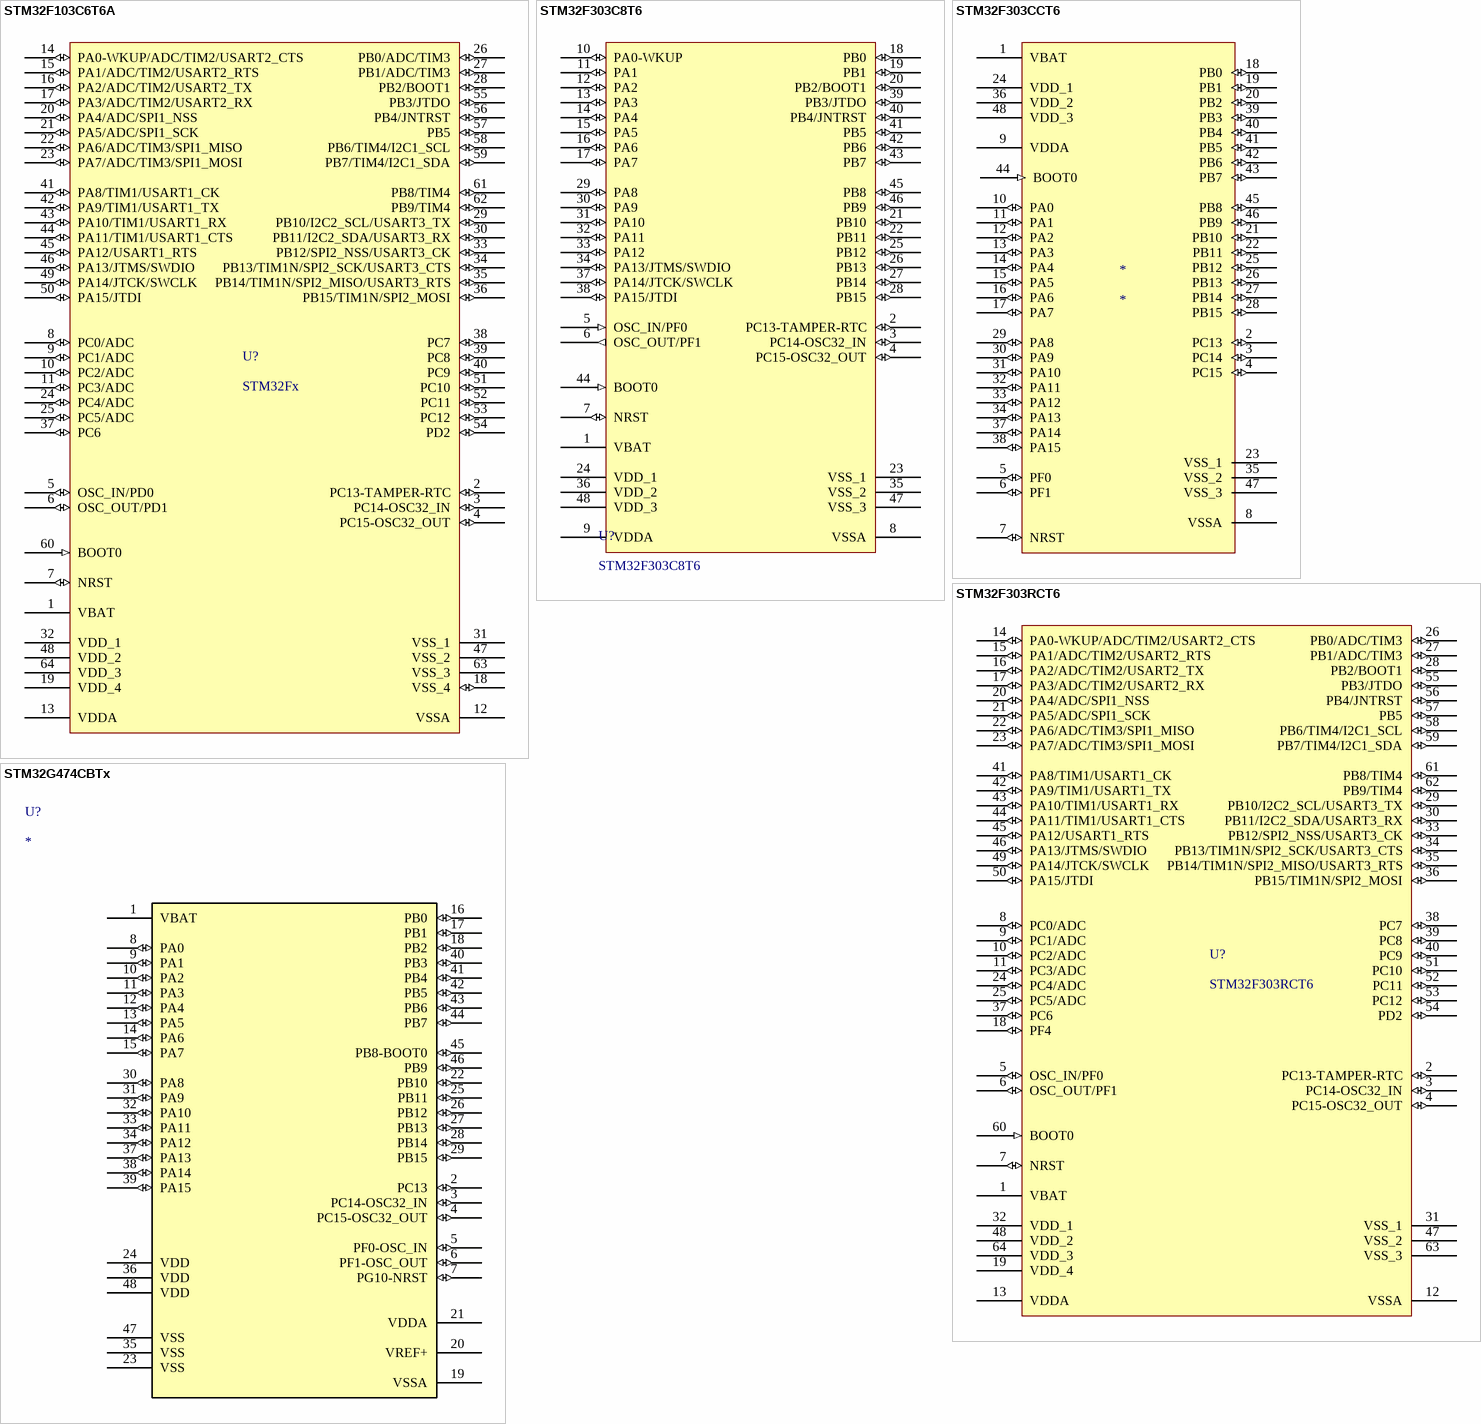
[diagram p2: symbols STM32F103C6T6A to STM32G474CBTx]

## STM32F103C6T6A
designator U?, comment STM32Fx
ARM Microcontrollers - MCU 32BIT Cortex M4 L/D Performance LINE; Manufacturer: STMicroelectronics; Manufacturer Part Number: STM32F103C6T6A; Core Processor: ARM® Cortex®-M3; Core Size: 32-Bit; Speed: 72MHz; Connectivity: CAN, I²C, IrDA, LIN, SPI, UART/USART, USB; Peripherals: DMA, Motor Control PWM, PDR, POR, PVD, PWM, Temp Sensor, WDT; Number of I/O: 37; Program Memory Size: 32KB (32K x 8); Program Memory Type: FLASH; RAM Size: 10K x 8; Voltage - Supply (Vcc/Vdd): 2 V ~ 3.6 V; Data Converters: A/D 10x12b; Oscillator Type: Internal; Supplier 1: Digi-Key; RoHS: RoHS Compliant; Category: Integrated Circuits (ICs); Stock 1: 1676; Pricing 1: 1=5.15, 10=4.629, 100=3.7928, 500=3.2287, 1000=2.723 (USD); Packaging: Tray; Part Status: Active; EEPROM Size: -; Operating Temperature: -40°C ~ 85°C (TA); Package / Case: 48-LQFP; Supplier Device Package: 48-LQFP (7x7); ComponentLink1URL: http://www.st.com/content/ccc/resource/technical/document/datasheet/0d/93/e0/d7/77/bf/4c/54/CD00210843.pdf/files/CD00210843.pdf/jcr:content/translations/en.CD00210843.pdf; ComponentLink1Description: http://www.st.com/content/ccc/resource/technical/document/datasheet/0d/93/e0/d7/77/bf/4c/54/CD00210843.pdf/files/CD00210843.pdf/jcr:content/translations/en.CD00210843.pdf
footprint LQFP64 N (TSQFP, 64-Leads, Body 10,00x10,00mm, Pitch 0,50mm, IPC Medium Density)
pins: 1 VBAT (power), 2 PC13-TAMPER-RTC (io), 3 PC14-OSC32_IN (io), 4 PC15-OSC32_OUT (io), 5 OSC_IN/PD0 (io), 6 OSC_OUT/PD1 (io), 7 NRST (io), 8 PC0/ADC (io), 9 PC1/ADC (io), 10 PC2/ADC (io), 11 PC3/ADC (io), 12 VSSA (power), 13 VDDA (power), 14 PA0-WKUP/ADC/TIM2/USART2_CTS (io), 15 PA1/ADC/TIM2/USART2_RTS (io), 16 PA2/ADC/TIM2/USART2_TX (io), 17 PA3/ADC/TIM2/USART2_RX (io), 18 VSS_4 (io), 19 VDD_4 (power), 20 PA4/ADC/SPI1_NSS (io), 21 PA5/ADC/SPI1_SCK (io), 22 PA6/ADC/TIM3/SPI1_MISO (io), 23 PA7/ADC/TIM3/SPI1_MOSI (io), 24 PC4/ADC (io), 25 PC5/ADC (io), 26 PB0/ADC/TIM3 (io), 27 PB1/ADC/TIM3 (io), 28 PB2/BOOT1 (io), 29 PB10/I2C2_SCL/USART3_TX (io), 30 PB11/I2C2_SDA/USART3_RX (io), 31 VSS_1 (power), 32 VDD_1 (power), 33 PB12/SPI2_NSS/USART3_CK (io), 34 PB13/TIM1N/SPI2_SCK/USART3_CTS (io), 35 PB14/TIM1N/SPI2_MISO/USART3_RTS (io), 36 PB15/TIM1N/SPI2_MOSI (io), 37 PC6 (io), 38 PC7 (io), 39 PC8 (io), 40 PC9 (io), 41 PA8/TIM1/USART1_CK (io), 42 PA9/TIM1/USART1_TX (io), 43 PA10/TIM1/USART1_RX (io), 44 PA11/TIM1/USART1_CTS (io), 45 PA12/USART1_RTS (io), 46 PA13/JTMS/SWDIO (io), 47 VSS_2 (power), 48 VDD_2 (power), 49 PA14/JTCK/SWCLK (io), 50 PA15/JTDI (io), 51 PC10 (io), 52 PC11 (io), 53 PC12 (io), 54 PD2 (io), 55 PB3/JTDO (io), 56 PB4/JNTRST (io), 57 PB5 (io), 58 PB6/TIM4/I2C1_SCL (io), 59 PB7/TIM4/I2C1_SDA (io), 60 BOOT0 (in), 61 PB8/TIM4 (io), 62 PB9/TIM4 (io), 63 VSS_3 (power), 64 VDD_3 (power)

## STM32F303C8T6
designator U?
STMICROELECTRONICS   STM32F303C8T6   32 Bit Microcontroller, General Purpose, ARM Cortex-M4, 72 MHz, 64 KB, 12 KB, 48 Pins, LQFP; RAM Size: 12KB; Max Power Dissipation: 364mW; Interface: I2C,SPI,CAN,IrDA,UART,USART,LIN; Number of I/Os: 37; Number of Timers/Counters: 9; Min Supply Voltage: 2V; Max Supply Voltage: 3.6V; Frequency: 72MHz; Oscillator Type: Internal; Data Bus Width: 32b; Watchdog Timer: Yes; Memory Type: FLASH; Memory Size: 64KB; Peripherals: POR,PWM,WDT,DMA; Supplier 1: Mouser; Manufacturer: STMicroelectronics; Manufacturer Part Number: STM32F303C8T6; Stock 1: 2033; Pricing 1: 1=4.49, 10=3.82, 50=3.82, 100=3.31, 1000=2.38, 10000=2.26 (USD); Case/Package: LQFP; Number of Pins: 48; Min Operating Temperature: -40°C; Max Operating Temperature: 85°C; Packaging: Tray; Number of Programmable I/O: 37; Max Frequency: 72MHz; Package Quantity: 1500; Core Architecture: ARM; Radiation Hardening: No; REACH SVHC: No SVHC; Lead Free: Lead Free; ComponentLink1URL: http://www.farnell.com/datasheets/1930060.pdf; ComponentLink1Description: http://www.farnell.com/datasheets/1930060.pdf; ComponentLink2URL: http://www.st.com/web/en/resource/technical/document/datasheet/DM00092070.pdf; ComponentLink2Description: http://www.st.com/web/en/resource/technical/document/datasheet/DM00092070.pdf; ComponentLink3URL: http://www.mouser.com/ds/2/389/stm32f303c6-956234.pdf; ComponentLink3Description: http://www.mouser.com/ds/2/389/stm32f303c6-956234.pdf; ComponentLink4URL: http://www.st.com/content/ccc/resource/technical/document/errata_sheet/c5/98/98/0d/73/b1/41/e6/DM00063985.pdf/files/DM00063985.pdf/jcr:content/translations/en.DM00063985.pdf; ComponentLink4Description: http://www.st.com/content/ccc/resource/technical/document/errata_sheet/c5/98/98/0d/73/b1/41/e6/DM00063985.pdf/files/DM00063985.pdf/jcr:content/translations/en.DM00063985.pdf
footprint LQFP48_L (Thin QFP, 48-Leads, Body 7x7mm, Pitch 0.5mm, IPC High Density)
pins: 1 VBAT (power), 2 PC13-TAMPER-RTC (io), 3 PC14-OSC32_IN (io), 4 PC15-OSC32_OUT (io), 5 OSC_IN/PF0 (in), 6 OSC_OUT/PF1 (out), 7 NRST (io), 8 VSSA (power), 9 VDDA (power), 10 PA0-WKUP (io), 11 PA1 (io), 12 PA2 (io), 13 PA3 (io), 14 PA4 (io), 15 PA5 (io), 16 PA6 (io), 17 PA7 (io), 18 PB0 (io), 19 PB1 (io), 20 PB2/BOOT1 (io), 21 PB10 (io), 22 PB11 (io), 23 VSS_1 (power), 24 VDD_1 (power), 25 PB12 (io), 26 PB13 (io), 27 PB14 (io), 28 PB15 (io), 29 PA8 (io), 30 PA9 (io), 31 PA10 (io), 32 PA11 (io), 33 PA12 (io), 34 PA13/JTMS/SWDIO (io), 35 VSS_2 (power), 36 VDD_2 (power), 37 PA14/JTCK/SWCLK (io), 38 PA15/JTDI (io), 39 PB3/JTDO (io), 40 PB4/JNTRST (io), 41 PB5 (io), 42 PB6 (io), 43 PB7 (io), 44 BOOT0 (in), 45 PB8 (io), 46 PB9 (io), 47 VSS_3 (power), 48 VDD_3 (power)

## STM32F303CCT6
designator *
IC MCU 32BIT 256KB FLASH 48LQFP; Manufacturer: STMicroelectronics; Manufacturer Part Number: STM32F303CCT6; Core Processor: ARM® Cortex®-M4; Core Size: 32-Bit; Speed: 72MHz; Connectivity: CAN, I²C, IrDA, LIN, SPI, UART/USART, USB; Peripherals: DMA, I²S, POR, PWM, WDT; Number of I/O: 37; Program Memory Size: 256KB (256K x 8); RAM Size: 40K x 8; Voltage - Supply (Vcc/Vdd): 2 V ~ 3.6 V; Data Converters: A/D 4x12b; D/A 2x12b; Oscillator Type: Internal; Supplier 1: Digi-Key; RoHS: RoHS Compliant; Category: Integrated Circuits (ICs); Stock 1: 2476; Pricing 1: 1=5.94, 10=5.336, 100=4.3719, 500=3.72172, 1000=3.1388 (USD); Packaging: Tray; Program Memory Type: FLASH; EEPROM Size: -; Operating Temperature: -40°C ~ 85°C (TA); Package / Case: 48-LQFP; Supplier Device Package: 48-LQFP (7x7); ComponentLink1URL: http://www.st.com/web/en/resource/technical/document/datasheet/DM00058181.pdf; ComponentLink1Description: http://www.st.com/web/en/resource/technical/document/datasheet/DM00058181.pdf; Supplier Part Number 1: 497-13318-ND
footprint LQFP48_N (Thin QFP, 48-Leads, Body 7x7mm, Pitch 0.5mm, IPC Medium Density)
pins: 1 VBAT (power), 2 PC13 (io), 3 PC14 (io), 4 PC15 (io), 5 PF0 (io), 6 PF1 (io), 7 NRST (io), 8 VSSA (power), 9 VDDA (power), 10 PA0 (io), 11 PA1 (io), 12 PA2 (io), 13 PA3 (io), 14 PA4 (io), 15 PA5 (io), 16 PA6 (io), 17 PA7 (io), 18 PB0 (io), 19 PB1 (io), 20 PB2 (io), 21 PB10 (io), 22 PB11 (io), 23 VSS_1 (power), 24 VDD_1 (power), 25 PB12 (io), 26 PB13 (io), 27 PB14 (io), 28 PB15 (io), 29 PA8 (io), 30 PA9 (io), 31 PA10 (io), 32 PA11 (io), 33 PA12 (io), 34 PA13 (io), 35 VSS_2 (power), 36 VDD_2 (power), 37 PA14 (io), 38 PA15 (io), 39 PB3 (io), 40 PB4 (io), 41 PB5 (io), 42 PB6 (io), 43 PB7 (io), 44 BOOT0 (in), 45 PB8 (io), 46 PB9 (io), 47 VSS_3 (power), 48 VDD_3 (power)

## STM32F303RCT6
designator U?
IC MCU 32BIT 256KB FLASH 64LQFP; Manufacturer: STMicroelectronics; Core Processor: ARM® Cortex®-M4; Core Size: 32-Bit; Speed: 72MHz; Connectivity: CAN, I²C, IrDA, LIN, SPI, UART/USART, USB; Peripherals: DMA, I²S, POR, PWM, WDT; Number of I/O: 52; Program Memory Size: 256KB (256K x 8); RAM Size: 40K x 8; Voltage - Supply (Vcc/Vdd): 2 V ~ 3.6 V; Data Converters: A/D 4x12b; D/A 2x12b; Oscillator Type: Internal; Supplier 1: Digi-Key; Manufacturer Part Number: STM32F303RCT6; RoHS: RoHS Compliant; Category: Integrated Circuits (ICs); Stock 1: 1216; Pricing 1: 1=6.38, 10=5.733, 100=4.6976, 500=3.99894, 1000=3.3726 (USD); Packaging: Tray; Part Status: Active; Program Memory Type: FLASH; EEPROM Size: -; Operating Temperature: -40°C ~ 85°C (TA); Package / Case: 64-LQFP; Supplier Device Package: 64-LQFP (10x10); ComponentLink1URL: http://www.st.com/content/ccc/resource/technical/document/datasheet/f2/1f/e1/41/ef/59/4d/50/DM00058181.pdf/files/DM00058181.pdf/jcr:content/translations/en.DM00058181.pdf; ComponentLink1Description: http://www.st.com/content/ccc/resource/technical/document/datasheet/f2/1f/e1/41/ef/59/4d/50/DM00058181.pdf/files/DM00058181.pdf/jcr:content/translations/en.DM00058181.pdf
footprint LQFP64 N (TSQFP, 64-Leads, Body 10,00x10,00mm, Pitch 0,50mm, IPC Medium Density)
pins: 1 VBAT (power), 2 PC13-TAMPER-RTC (io), 3 PC14-OSC32_IN (io), 4 PC15-OSC32_OUT (io), 5 OSC_IN/PF0 (io), 6 OSC_OUT/PF1 (io), 7 NRST (io), 8 PC0/ADC (io), 9 PC1/ADC (io), 10 PC2/ADC (io), 11 PC3/ADC (io), 12 VSSA (power), 13 VDDA (power), 14 PA0-WKUP/ADC/TIM2/USART2_CTS (io), 15 PA1/ADC/TIM2/USART2_RTS (io), 16 PA2/ADC/TIM2/USART2_TX (io), 17 PA3/ADC/TIM2/USART2_RX (io), 18 PF4 (io), 19 VDD_4 (power), 20 PA4/ADC/SPI1_NSS (io), 21 PA5/ADC/SPI1_SCK (io), 22 PA6/ADC/TIM3/SPI1_MISO (io), 23 PA7/ADC/TIM3/SPI1_MOSI (io), 24 PC4/ADC (io), 25 PC5/ADC (io), 26 PB0/ADC/TIM3 (io), 27 PB1/ADC/TIM3 (io), 28 PB2/BOOT1 (io), 29 PB10/I2C2_SCL/USART3_TX (io), 30 PB11/I2C2_SDA/USART3_RX (io), 31 VSS_1 (power), 32 VDD_1 (power), 33 PB12/SPI2_NSS/USART3_CK (io), 34 PB13/TIM1N/SPI2_SCK/USART3_CTS (io), 35 PB14/TIM1N/SPI2_MISO/USART3_RTS (io), 36 PB15/TIM1N/SPI2_MOSI (io), 37 PC6 (io), 38 PC7 (io), 39 PC8 (io), 40 PC9 (io), 41 PA8/TIM1/USART1_CK (io), 42 PA9/TIM1/USART1_TX (io), 43 PA10/TIM1/USART1_RX (io), 44 PA11/TIM1/USART1_CTS (io), 45 PA12/USART1_RTS (io), 46 PA13/JTMS/SWDIO (io), 47 VSS_2 (power), 48 VDD_2 (power), 49 PA14/JTCK/SWCLK (io), 50 PA15/JTDI (io), 51 PC10 (io), 52 PC11 (io), 53 PC12 (io), 54 PD2 (io), 55 PB3/JTDO (io), 56 PB4/JNTRST (io), 57 PB5 (io), 58 PB6/TIM4/I2C1_SCL (io), 59 PB7/TIM4/I2C1_SDA (io), 60 BOOT0 (in), 61 PB8/TIM4 (io), 62 PB9/TIM4 (io), 63 VSS_3 (power), 64 VDD_3 (power)

## STM32G474CBTx
designator U?
Microcontroller 32-Bit ARM Cortex-M4 RISC 128K-Byte Flash 3.3V 48-Pin LQFP; Manufacturer: STMicroelectronics; Manufacturer Part Number: STM32G474CBT3; ComponentLink1Description: Datasheet; ComponentLink1URL: https://www.st.com/resource/en/datasheet/stm32g474cb.pdf
footprint LQFP48 (Thin QFP, 48-Leads, Body 7x7mm, Pitch 0.5mm, IPC Medium Density)
pins: 1 VBAT (power), 2 PC13 (io), 3 PC14-OSC32_IN (io), 4 PC15-OSC32_OUT (io), 5 PF0-OSC_IN (io), 6 PF1-OSC_OUT (io), 7 PG10-NRST (io), 8 PA0 (io), 9 PA1 (io), 10 PA2 (io), 11 PA3 (io), 12 PA4 (io), 13 PA5 (io), 14 PA6 (io), 15 PA7 (io), 16 PB0 (io), 17 PB1 (io), 18 PB2 (io), 19 VSSA (power), 20 VREF+ (power), 21 VDDA (power), 22 PB10 (io), 23 VSS (power), 24 VDD (power), 25 PB11 (io), 26 PB12 (io), 27 PB13 (io), 28 PB14 (io), 29 PB15 (io), 30 PA8 (io), 31 PA9 (io), 32 PA10 (io), 33 PA11 (io), 34 PA12 (io), 35 VSS (power), 36 VDD (power), 37 PA13 (io), 38 PA14 (io), 39 PA15 (io), 40 PB3 (io), 41 PB4 (io), 42 PB5 (io), 43 PB6 (io), 44 PB7 (io), 45 PB8-BOOT0 (io), 46 PB9 (io), 47 VSS (power), 48 VDD (power)